# Altium schematic symbol library Shared.SchLib: 97 symbols
Pins are listed as number, name and electrical type; pins without a type are passive.

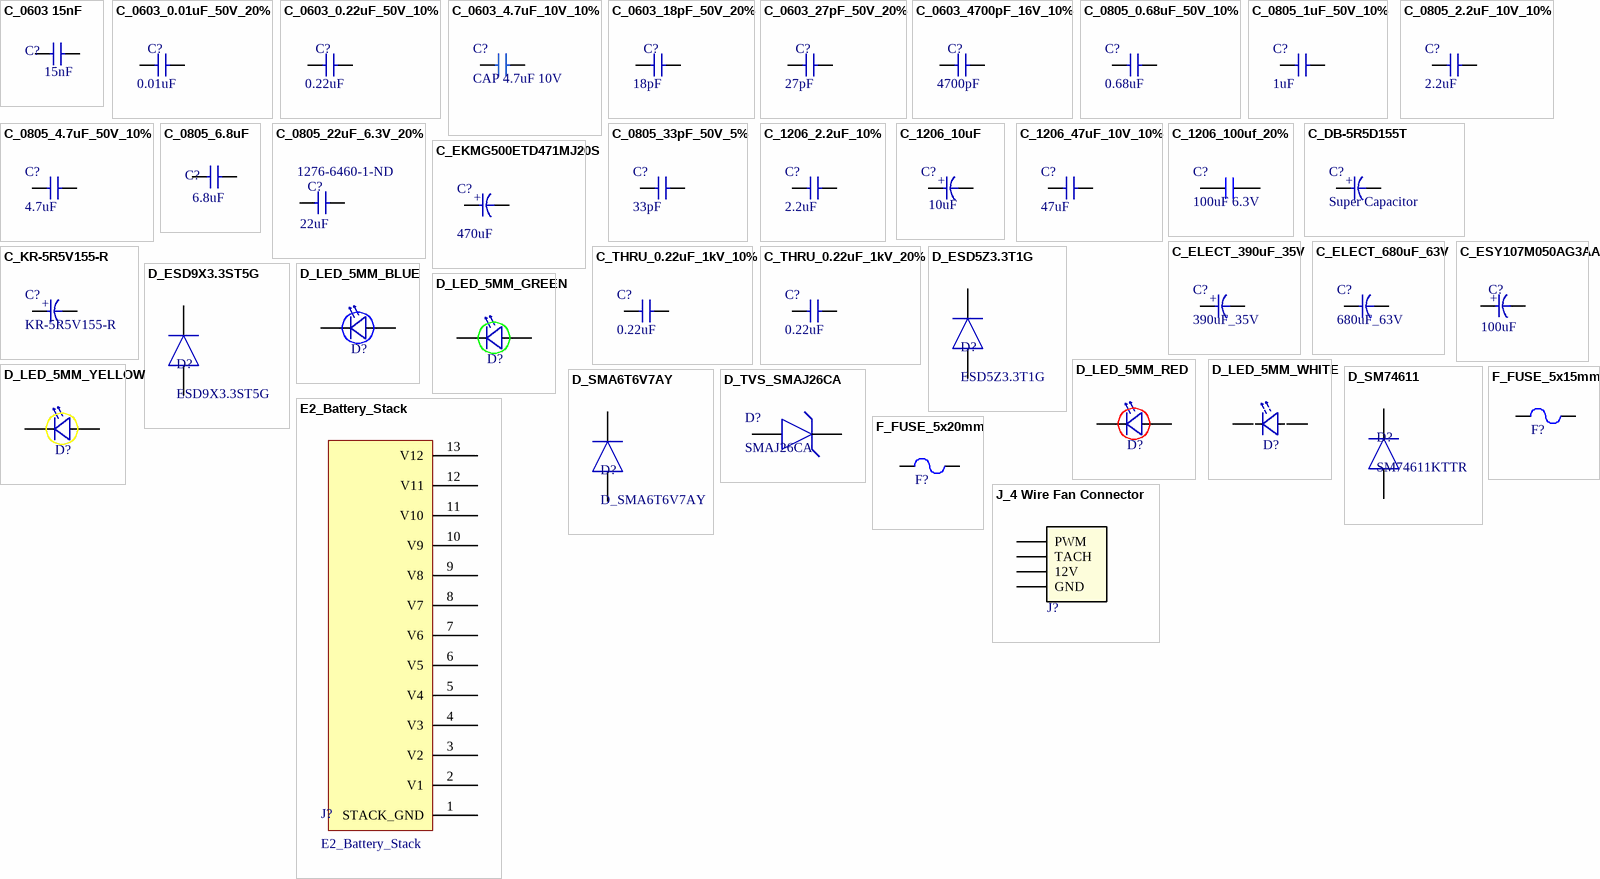
[diagram p0: symbols C_0603 15nF to J_4 Wire Fan Connector]

## C_0603 15nF
designator C?  value 15nF  (hidden comment: *)
CAP CERM 15nF; SVP Creator: Joshua San Min; Package: =Selected Package
pins: 1, 2

## C_0603_0.01uF_50V_20%
designator C?, comment value 0.01uF  (hidden comment: CAP 0.01uF 50V X7R)
CAP CERM 0.01uF 20% 50V 0603; SVP Creator: Spencer Berglund; Package: =SelectedPackage; Voltage: 50V; Temperature Coefficient: X7R; Supplier 1: Digi-Key; Supplier Part Number 1: 1276-1927-1-ND
simulation model Capacitor (Capacitor Model)
footprint 0603_CAPACITOR (0603 Capacitor)
pins: 1, 2

## C_0603_0.22uF_50V_10%
designator C?, comment value 0.22uF  (hidden comment: CAP 0.22uF 50V X7R)
CAP CERM 0.22uF 10% 50V 0603; SVP Creator: Spencer Berglund; Package: =SelectedPackage; Voltage: 50V; Temperature Coefficient: X7R; Supplier 1: Digi-Key; Supplier Part Number 1: 399-7889-1-ND
simulation model Capacitor (Capacitor Model)
footprint 0603_CAPACITOR (0603 Capacitor)
pins: 1, 2

## C_0603_4.7uF_10V_10%
designator C?, comment CAP 4.7uF 10V
SVP Creator: Austin Glynn; Supplier 1: "Digikey"; Value: 4.7uF; Supplier 1 Part Number: "445-14258-1-ND"; Voltage: 10V
simulation model CAPACITOR (Model Description)
footprint Model Name (Footprint not found)
pins: 4, 5

## C_0603_18pF_50V_20%
designator C?, comment value 18pF  (hidden comment: CAP 18pF 50V NP0)
CAP CERM 18pF 20% 50V 0603; SVP Creator: Spencer Berglund; Package: =SelectedPackage; Voltage: 50V; Temperature Coefficient: NP0; Supplier 1: Digi-Key; Supplier Part Number 1: 399-7866-1-ND
simulation model Capacitor (Capacitor Model)
footprint 0603_CAPACITOR (0603 Capacitor)
pins: 1, 2

## C_0603_27pF_50V_20%
designator C?, comment value 27pF  (hidden comment: CAP 27pF 50V NP0)
CAP CERM 27pF 20% 50V 0603; SVP Creator: Spencer Berglund; Package: =SelectedPackage; Voltage: 50V; Temperature Coefficient: NP0; Supplier 1: Digi-Key; Supplier Part Number 1: 399-7889-1-ND
simulation model Capacitor (Capacitor Model)
footprint 0603_CAPACITOR (0603 Capacitor)
pins: 1, 2

## C_0603_4700pF_16V_10%
designator C?, comment value 4700pF  (hidden comment: CAP 4700pF 16V X7R)
CAP CERM 4700pF 10% 16V 0603; SVP Creator: Spencer Berglund; Package: =SelectedPackage; Voltage: 16V; Temperature Coefficient: X7R; Supplier 1: Digi-Key; Supplier Part Number 1: 399-9091-1-ND
simulation model Capacitor (Capacitor Model)
footprint 0603_CAPACITOR (0603 Capacitor)
pins: 1, 2

## C_0805_0.68uF_50V_10%
designator C?, comment value 0.68uF  (hidden comment: C0805C684K5RACTU)
0.68µF 50V Ceramic Capacitor X7R 0805 (2012 Metric) 0.079" L x 0.049" W (2.00mm x 1.25mm); SVP Creator: Spencer Berglund; Voltage - Rated: 50V; Supplier 1: Digi-Key; Supplier Part Number 1: 399-8114-1-ND
footprint 0805_Capacitor (0805 Capacitor)
pins: 1, 2

## C_0805_1uF_50V_10%
designator C?, comment value 1uF  (hidden comment: CL21B105KBFNNNG)
1µF 50V Ceramic Capacitor X7R 0805 (2012 Metric) 0.079" L x 0.049" W (2.00mm x 1.25mm); SVP Creator: Spencer Berglund; Voltage - Rated: 50V; Supplier 1: Digi-Key; Supplier Part Number 1: 1276-6470-1-ND
footprint 0805_Capacitor (0805 Capacitor)
pins: 1, 2

## C_0805_2.2uF_10V_10%
designator C?, comment value 2.2uF  (hidden comment: CAP)
2.2µF ±10% 10V X7R Ceramic Capacitor -55°C ~ 125°C Surface Mount, MLCC 0805 (2012 Metric) 0.079" L x 0.049" W (2.00mm x 1.25mm); SVP Creator: Zach Kabitz; Supplier 1: Digi-Key; Supplier Part Number 1: 311-1368-2-ND
footprint 0805_Capacitor (0805 Capacitor)
pins: 1, 2

## C_0805_4.7uF_50V_10%
designator C?  value 4.7uF  (hidden comment: *)
CAP CERM X5R 4.7uF; Supplier 1: Digi-Key; Supplier Part Number 1: 490-10751-2-ND
footprint 0805_Capacitor (0805 Capacitor)
pins: 1, 2

## C_0805_6.8uF
designator C?, comment value 6.8uF  (hidden comment: CAP 6.8uF)
SVP Creator: Joshua San; Package: =SelectedPackage
footprint 0805_Capacitor (0805 Capacitor)
pins: 1, 2

## C_0805_22uF_6.3V_20%
designator C?, comment value 22uF  Supplier Part Number 1: 1276-6460-1-ND  (hidden comment: CL21A226MQQNNNG)
22µF 6.3V Ceramic Capacitor X5R 0805 (2012 Metric) 0.079" L x 0.049" W (2.00mm x 1.25mm); Tolerance: ±20%; Voltage - Rated: 6.3V; Temperature Coefficient: X5R; Operating Temperature: -55°C ~ 85°C; Supplier 1: Digi-Key
footprint 0805_CAPACITOR (0805 Capacitor)
pins: 1, 2

## C_0805_33pF_50V_5%
designator C?, comment value 33pF  (hidden comment: CAP)
33pF ±5% 50V C0G, NP0 Ceramic Capacitor -55°C ~ 125°C Surface Mount, MLCC 0805 (2012 Metric) 0.079" L x 0.049" W (2.00mm x 1.25mm); SVP Creator: Zach Kabitz; Supplier 1: Digi-Key; Supplier Part Number 1: 1276-1105-2-ND
footprint 0805_Capacitor (0805 Capacitor)
pins: 1, 2

## C_1206_2.2uF_10%
designator C?, comment value 2.2uF  (hidden comment: CAP)
2.2µF ±10% 100V X7R Ceramic Capacitor -55°C ~ 125°C Surface Mount, MLCC 1206 (3216 Metric) 0.126" L x 0.063" W (3.20mm x 1.60mm); SVP Creator: Zach Kabitz; Supplier 1: Digi-Key; Supplier Part Number 1: GRM31CR72A225KA73K-ND
footprint 1206_CAPACITOR (1206 Resistor/Capacitor)
pins: 1, 2

## C_1206_10uF
designator C?  Capacitance: 10uF  (hidden comment: *)
CAP TANT 10UF 6.3V 10% 1206; Manufacturer: Kemet; Manufacturer Part Number: T491A106K006AT7280; Digikey Part Number: 399-10116-2-ND; Family: Tantalum Capacitor; Voltage rating: 6.3V; Package: 1206
footprint 1206_CAPACITOR (1206 Resistor/Capacitor)
pins: 1, 2
text: +

## C_1206_47uF_10V_10%
designator C?  value 47uF  (hidden comment: *)
CAP CERM X5R 47uF
footprint 1206_CAPACITOR (1206 Resistor/Capacitor)
pins: 1, 2

## C_1206_100uf_20%
designator C?, comment 100uF 6.3V
Cap 100uF 6.3V 20% X5R 1206 CER; Manufacturer 1: Murata Electronics North America; Manufacturer Part Number 1: GRM31CR60J107ME39L; Capacitance: 100µF; Supplier 1: Digi-Key; Supplier Part Number 1: 490-4539-1-ND; RoHS: RoHS Compliant; Category: Capacitors; Stock: 5629; Pricing: 1=0.81, 10=0.689, 50=0.507, 100=0.403, 250=0.338, 500=0.3055, 1000=0.2795 (USD); Packaging: Cut Tape (CT); Voltage - Rated: 6.3V; Tolerance: ±20%; Temperature Coefficient: X5R; Mounting Type: Surface Mount, MLCC; Operating Temperature: -55°C ~ 85°C; Applications: General Purpose; Ratings: -; Package / Case: 1206 (3216 Metric); Size / Dimension: 0.126" L x 0.063" W (3.20mm x 1.60mm); Height - Seated (Max): -; Thickness (Max): 0.071" (1.80mm); Lead Spacing: -; Features: -; Lead Style: -; ComponentLink1URL: http://www.murata.com/products/catalog/pdf/c02e.pdf; ComponentLink1Description: http://www.murata.com/products/catalog/pdf/c02e.pdf
footprint 1206_CAPACITOR (1206 Resistor/Capacitor)
footprint 1206_CAPACITOR (1206 Resistor/Capacitor)
pins: 1, 2

## C_DB-5R5D155T
designator C?, comment Super Capacitor
CAP 1.5F -20% +80% 5.5V T/H; Supplier 1: Digi-Key; Supplier Part Number 1: 604-1151-ND
footprint CAP_RADIAL_5x21.5_THRU (Radial Capacitor 5mm lead spacing, 21.5mm diameter, 8mm tall)
pins: 1, 2
text: +

## C_EKMG500ETD471MJ20S
designator C?, comment value 470uF  (hidden comment: EKMG500ETD471MJ20S)
470µF 50V Aluminum Capacitors Radial, Can 1000 Hrs @ 105°C; Supplier 1: Digi-Key; Supplier Part Number 1: 565-3745-1-ND
footprint CAP_RADIAL_10x21.5mm_THRU (Aluminum Capacitor Radial)
pins: 1, 2
text: +

## C_ELECT_390uF_35V
designator C?, comment 390uF_35V
CAP ALUM 390UF 35V 20% SMD; Manufacturer: Nichicon; Manufacturer Part Number: UCL1V391MNL1GS; Capacitance: 390µF; Lifetime @ Temp.: 2000 Hrs @ 105°C; Ripple Current: 850mA; Impedance: 80 mOhm; Surface Mount Land Size: 0.406" L x 0.406" W (10.30mm x 10.30mm); Supplier 1: Digi-Key; RoHS: RoHS Compliant; Category: Capacitors; Stock 1: 2000; Pricing 1: 500=0.34272, 1000=0.29512, 2500=0.27608, 5000=0.2618, 12500=0.24809, 25000=0.24276, 50000=0.23952 (USD); Packaging: Tape & Reel (TR); Voltage Rating: 35V; Tolerance: ±20%; ESR (Equivalent Series Resistance): -; Operating Temperature: -55°C ~ 105°C; Type: -; Applications: General Purpose; Lead Spacing: -; Size / Dimension: 0.394" Dia (10.00mm); Height - Seated (Max): 0.394" (10.00mm); Mounting Type: Surface Mount; Package / Case: Radial, Can - SMD; ComponentLink1URL: http://nichicon-us.com/english/products/pdfs/e-cl.pdf; ComponentLink1Description: http://nichicon-us.com/english/products/pdfs/e-cl.pdf; Supplier Part Number 1: 493-3960-2-ND
footprint CAP_10x10_SMD
pins: 1, 2
text: +

## C_ELECT_680uF_63V
designator C?, comment 680uF_63V
CAP ALUM 680UF 63V 20% SMD; Manufacturer: Nichicon; Manufacturer Part Number: UCL1V391MNL1GS; Capacitance: 680µF; Lifetime @ Temp.: 2000 Hrs @ 105°C; Ripple Current: 850mA; Impedance: 80 mOhm; Surface Mount Land Size: 0.406" L x 0.406" W (10.30mm x 10.30mm); Supplier 1: Digi-Key; RoHS: RoHS Compliant; Category: Capacitors; Stock 1: 2000; Pricing 1: 500=0.34272, 1000=0.29512, 2500=0.27608, 5000=0.2618, 12500=0.24809, 25000=0.24276, 50000=0.23952 (USD); Packaging: Tape & Reel (TR); Voltage Rating: 63V; Tolerance: ±20%; ESR (Equivalent Series Resistance): -; Operating Temperature: -55°C ~ 105°C; Type: -; Applications: General Purpose; Lead Spacing: -; Size / Dimension: 0.394" Dia (10.00mm); Height - Seated (Max): 0.394" (10.00mm); Mounting Type: Surface Mount; Package / Case: Radial, Can - SMD; ComponentLink1URL: http://nichicon-us.com/english/products/pdfs/e-cl.pdf; ComponentLink1Description: http://nichicon-us.com/english/products/pdfs/e-cl.pdf; Supplier Part Number 1: 493-3960-2-ND
footprint CAP_10x10_SMD
pins: 1, 2

## C_ESY107M050AG3AA
designator C?, comment value 100uF  (hidden comment: ESY107M050AG3AA)
100µF 50V Aluminum Capacitors Radial, Can 74 mOhm @ 100kHz 3000 Hrs @ 105°C; Supplier 1: Digi-Key; Supplier Part Number 1: 399-6119-ND
footprint CAP_RADIAL_3.5x12.50mm_THRU
pins: 1, 2
text: +

## C_KR-5R5V155-R
designator C?, comment KR-5R5V155-R
1.5F Supercap 5.5V Axial, Can - Vertical 30 Ohm @ 1kHz 1000 Hrs @ 70°C 0.748" Dia (19.00mm); Tolerance: -20%, +80%; Supplier 1: Digi-Key; Supplier Part Number 1: 283-2817-ND; Value: 1.5F; Voltage - Rated: 5.5V; ESR: 30 Ohm @ 1kHz; Operating Temperature: -25°C ~ 70°C
footprint CAP_AXIAL_5x20mm_THRU (Axial, Can - Vertical)
pins: 1, 2
text: +

## C_THRU_0.22uF_1kV_10%
designator C?, comment value 0.22uF  (hidden comment: C_BIG)
CAP FILM 0.22UF 10% 1KVDC RADIAL; SVP Creator: Zach Kabitz; Supplier 1: Digi-Key; Supplier Part Number 1: 399-12808-ND
pins: 1, 2

## C_THRU_0.22uF_1kV_20%
designator C?, comment value 0.22uF  (hidden comment: C_BIG)
CAP CER 0.22UF 1KV X7R RADIAL; SVP Creator: Zach Kabitz; Supplier 1: Digi-Key; Supplier Part Number 1: 490-9279-3-ND
pins: 1, 2

## D_ESD5Z3.3T1G
designator D?, comment ESD5Z3.3T1G
TVS DIODE 3.3VWM 14.1VC SOD523; Supplier 1: Digi-Key; Supplier Part Number 1: ESD5Z3.3T1GOSCT-ND
footprint SOD-523 (SOD-523 Diode)
pins: 1, 2

## D_ESD9X3.3ST5G
designator D?, comment ESD9X3.3ST5G
TVS DIODE 3.3VWM 10.4VC SOD923; Supplier 1: Digi-Key; Supplier Part Number 1: ESD9X3.3ST5GOSCT-ND
footprint SOD-923 (SOD-923 Diode)
pins: 1, 2

## D_LED_5MM_BLUE
designator D?  (value not drawn)
LED 5MM BLUE CLEAR 470NM 15DEG; Manufacturer: Cree Inc; Manufacturer PN: C503B-BCN-CV0Z0461; SVP Creator: Matt Crane; Current: 20mA; Forward Voltage: 3.2; Package: Radial; Known Distributors: Digikey; Value: BLUE; ComponentLink1Description: Datasheet
footprint 5mm_LED_Blue
pins: 1 Cathode, 2 Anode

## D_LED_5MM_GREEN
designator D?  (value not drawn)
LED 5MM GREEN CLEAR 527NM 15DEG; Manufacturer: Cree Inc; Manufacturer PN: C503B-GAN-CB0F0791; SVP Creator: Matt Crane; Current: 20mA; Forward Voltage: 3.2; Package: Radial; Known Distributors: Digikey; Value: GREEN; ComponentLink1Description: Datasheet
footprint 5mm_LED_GREEN
pins: 1 Cathode, 2 Anode

## D_LED_5MM_RED
designator D?  (value not drawn)
LED 5MM RED CLEAR 624NM 15DEG; Manufacturer: Cree Inc; Manufacturer PN: C503B-RAS-CY0B0AA1; SVP Creator: Matt Crane; Current: 20mA; Forward Voltage: 2.1; Package: Radial; Known Distributors: Digikey; Value: RED; ComponentLink1Description: Datasheet
footprint 5mm_LED_RED
pins: 1 Cathode, 2 Anode

## D_LED_5MM_WHITE
designator D?  (value not drawn)
LED COOL WHITE CLEAR 5MM RND T/H; Manufacturer: Cree Inc; Manufacturer PN: C513A-WSN-CX0Z0231; SVP Creator: Jun Oh; Current: 20mA; Forward Voltage: 3.2V; Package: Radial; Known Distributors: Digikey; Value: WHITE; ComponentLink1Description: Datasheet; Supplier 1: Digi-Key; Supplier Part Number 1: C513A-WSN-CX0Z0231-ND
footprint 5mm_LED_GREEN
pins: 1 Cathode, 2 Anode

## D_LED_5MM_YELLOW
designator D?  (value not drawn)
LED 5MM AMBER CLEAR 591NM 15DEG; Manufacturer: Cree Inc; Manufacturer PN: C503B-AAN-CY0B0251; SVP Creator: Matt Crane; Current: 20mA; Forward Voltage: 2.1; Value: YELLOW; Package: Radial; Known Distributors: Digikey; ComponentLink1Description: Datasheet
footprint 5mm_LED_YELLOW
pins: 1 Cathode, 2 Anode

## D_SM74611
designator D?, comment SM74611KTTR
Smart Bypass Diode (For Solar Array) DDPAK/TO-263-3; Forward Voltage (Average): 26mV; Forward Current (Average): 15A Max; Reverse Voltage: 30V; Supplier 1: Digi-Key; Supplier Part Number 1: 296-35688-1-ND
footprint SM74611KTTR (SM74611KTTR Smart Bypass Diode)
pins: A ANNODE, C CATHODE

## D_SMA6T6V7AY
designator D?
TVS DIODE 5VWM 13.4VC SMA; Supplier 1: Digi-Key; Supplier Part Number 1: 497-11833-1-ND
footprint SMA_DIODE (DO-214AC SMA Dode Footprint)
pins: 1, 2

## D_TVS_SMAJ26CA
designator D?, comment SMAJ26CA
TVS DIODE BIDIRECTIONAL 26VWM 53.5VC SMA
footprint SMA_DIODE_BI
pins: 1 A, 2 K

## E2_Battery_Stack
designator J?
Mechanical model of Eos 2's battery stack configuration (12 cells)
footprint E2_Battery_Stack (Footprint not found)
pins: 1 STACK_GND, 2 V1, 3 V2, 4 V3, 5 V4, 6 V5, 7 V6, 8 V7, 9 V8, 10 V9, 11 V10, 12 V11, 13 V12

## F_FUSE_5x15mm
designator F?  (value not drawn)
5mm diameter, 15mm long fuses; Supplier 1: Digi-Key; Supplier Part Number 1: 507-1703-ND
footprint FUSE_CARTRIDGE_5x15mm
pins: 1, 2

## F_FUSE_5x20mm
designator F?  (value not drawn)
5mm diameter, 20mm long fuses; Supplier 1: Digi-Key; Supplier Part Number 1: 507-1703-ND
footprint FUSE_CARTRIDGE_5x20mm
pins: 1, 2

## J_4 Wire Fan Connector
designator J?  (value not drawn)
4 Wire Fan Connector; Supplier 1: Digi-Key; Supplier Part Number 1: WM4330-ND
footprint 4 Wire Fan Header (4 Pin Fan Header)
pins: 1 GND, 2 12V, 3 TACH, 4 PWM

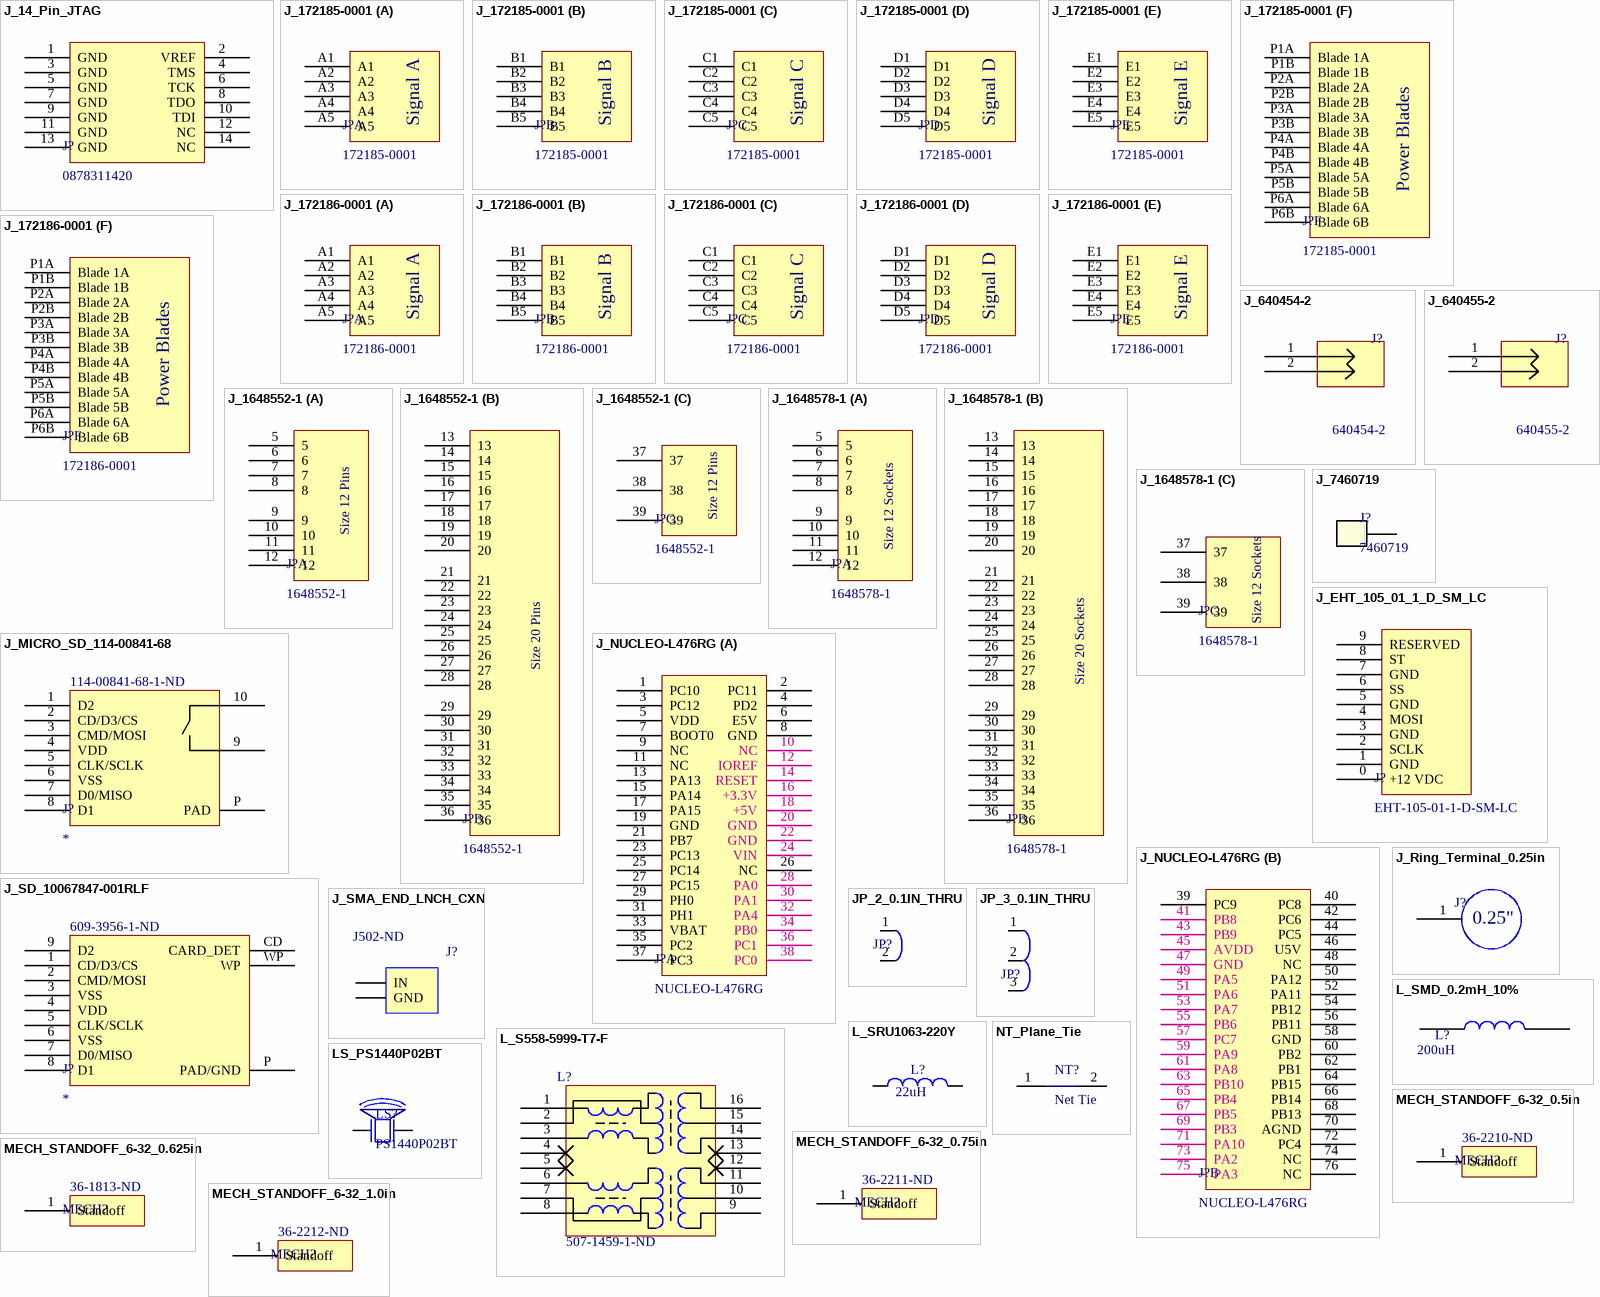
[diagram p1: symbols J_14_Pin_JTAG to NT_Plane_Tie]

## J_14_Pin_JTAG
designator J?, comment 0878311420
14 Pin JTAG Connector; Supplier 1: Digi-Key; Supplier Part Number 1: WM17469-ND
footprint 0878311420 (14 Positions Header, Shrouded Connector 0.079" (2.00mm) Through Hole Gold)
pins: 1 GND, 2 VREF, 3 GND, 4 TMS, 5 GND, 6 TCK, 7 GND, 8 TDO, 9 GND, 10 TDI, 11 GND, 12 NC, 13 GND, 14 NC

## J_172185-0001
designator J?, comment 172185-0001
EXTreme EnergetiC™ Modular Right-Angle Plug Assembly, 31 Circuits (25 Signal/6 Power) with Solder Tail Mounting
footprint 172185-0001 (EXTreme EnergetiC™ Modular Right-Angle Plug Assembly, 31 Circuits (25 Signal/6 Power) with Solder Tail Mounting)
part A pins: A1, A2, A3, A4, A5
part B pins: B1, B2, B3, B4, B5
part C pins: C1, C2, C3, C4, C5
part D pins: D1, D2, D3, D4, D5
part E pins: E1, E2, E3, E4, E5
part F pins: P1A Blade 1A, P1B Blade 1B, P2A Blade 2A, P2B Blade 2B, P3A Blade 3A, P3B Blade 3B, P4A Blade 4A, P4B Blade 4B, P5A Blade 5A, P5B Blade 5B, P6A Blade 6A, P6B Blade 6B
part A text: Signal A
part B text: Signal B
part C text: Signal C
part D text: Signal D
part E text: Signal E
part F text: Power Blades

## J_172186-0001
designator J?, comment 172186-0001
EXTreme EnergetiC™ Modular Vertical Receptacle Assembly, 31 Circuits (25 Signal/6 Power) with Press-Fit Tails
footprint 172186-0001 (EXTreme EnergetiC™ Modular Vertical Receptacle Assembly, 31 Circuits (25 Signal/6 Power) with Press-Fit Tails)
part A pins: A1, A2, A3, A4, A5
part B pins: B1, B2, B3, B4, B5
part C pins: C1, C2, C3, C4, C5
part D pins: D1, D2, D3, D4, D5
part E pins: E1, E2, E3, E4, E5
part F pins: P1A Blade 1A, P1B Blade 1B, P2A Blade 2A, P2B Blade 2B, P3A Blade 3A, P3B Blade 3B, P4A Blade 4A, P4B Blade 4B, P5A Blade 5A, P5B Blade 5B, P6A Blade 6A, P6B Blade 6B
part A text: Signal A
part B text: Signal B
part C text: Signal C
part D text: Signal D
part E text: Signal E
part F text: Power Blades

## J_640454-2
designator J?, comment 640454-2
2 Positions Header, Unshrouded Connector 0.100" (2.54mm) Through Hole Tin; Supplier 1: Digi-Key; Supplier Part Number 1: A19423-ND
footprint 640454-2
pins: 1, 2

## J_640455-2
designator J?, comment 640455-2
2 Positions Header, Unshrouded Connector 0.100" (2.54mm) Through Hole, Right Angle Tin; Supplier 1: Digi-Key; Supplier Part Number 1: A19450-ND
footprint 640455-2
pins: 1, 2

## J_1648552-1
designator J?, comment 1648552-1
39 Position Housing for 39 (24 + 15 Power) Position Housing for Male Pins Connector Black Panel Mount Drawer; Supplier 1: Digi-Key; Supplier 2: Digi-Key; Supplier 3: Digi-Key; Supplier Part Number 1: A36286-ND; Supplier Part Number 2: 1650060-2-ND; Supplier Part Number 3: A112729-ND; Supplier 4: Digi-Key; Supplier Part Number 4: A101939-ND
footprint 1648552-1 (39 (24 + 15 Power) Position Housing for Male Pins Connector Black Panel Mount Drawer)
part A pins: 5, 6, 7, 8, 9, 10, 11, 12
part B pins: 13, 14, 15, 16, 17, 18, 19, 20, 21, 22, 23, 24, 25, 26, 27, 28, 29, 30, 31, 32, 33, 34, 35, 36
part C pins: 37, 38, 39
part A text: Size 12 Pins
part B text: Size 20 Pins
part C text: Size 12 Pins

## J_1648578-1
designator J?, comment 1648578-1
39 Position Housing for Female Sockets Connector Black Panel Mount Drawer; Supplier 1: Digi-Key; Supplier Part Number 1: 1648578-1-ND; Supplier 2: Digi-Key; Supplier 3: Digi-Key; Supplier 4: Digi-Key; Supplier Part Number 2: A114336-ND; Supplier Part Number 3: A36293-ND; Supplier Part Number 4: A36288-ND
footprint 1648578-1 (39 Position Housing for Female Sockets Connector Black Panel Mount Drawer)
part A pins: 5, 6, 7, 8, 9, 10, 11, 12
part B pins: 13, 14, 15, 16, 17, 18, 19, 20, 21, 22, 23, 24, 25, 26, 27, 28, 29, 30, 31, 32, 33, 34, 35, 36
part C pins: 37, 38, 39
part A text: Size 12 Sockets
part B text: Size 20 Sockets
part C text: Size 12 Sockets

## J_7460719
designator J?, comment 7460719
POWER ELEMENT SHANK M8 25PIN; Manufacturer: Wurth Electronics Inc; Supplier 1: Digi-Key; Manufacturer Part Number: 7460719; RoHS: RoHS Compliant; Category: Connectors, Interconnects; Stock 1: 401; Pricing 1: 1=5.59, 10=5.346, 50=4.86, 100=4.374, 500=3.888 (USD); Terminal Type: Shank Terminal; Screw Size: M8; Termination: Press-Fit, Solder; Current Rating: -; Number of Pins: 25; Mounting Type: Through Hole; Features: Screw not Included; Contact Finish: -; Contact Material: -; Material - Insulation: -; Screw Material: -; Screw Finish: -; ComponentLink1URL: http://katalog.we-online.de/em/datasheet/7460719.pdf; ComponentLink1Description: http://katalog.we-online.de/em/datasheet/7460719.pdf; Supplier Part Number 1: 732-3219-ND
footprint Screw Connector 7460719
pins: 1

## J_EHT_105_01_1_D_SM_LC
designator J?, comment EHT-105-01-1-D-SM-LC
Samtec Connector for LuminQ/BeniQ Heads Up Deisplay (+12V); Manufacturer: Samtec; Manufacturer PN: EHT-105-01-1-D-SM-LC
footprint EHT-120-01-S-D-SM-LC
pins: 0 +12 VDC (power), 1 GND (power), 2 SCLK, 3 GND, 4 MOSI, 5 GND (power), 6 SS, 7 GND, 8 ST, 9 RESERVED, 10 NC hidden, 11 NC hidden

## J_MICRO_SD_114-00841-68
designator J?  Supplier Part Number 1: 114-00841-68-1-ND
CONN MICRO SD CARD PUSH-PULL R/A; Supplier 1: Digi-Key
footprint MICRO_SD_SMD_114-00841-68 (CONN MICRO SD CARD PUSH-PUSH R/A)
pins: 1 D2, 2 CD/D3/CS, 3 CMD/MOSI, 4 VDD, 5 CLK/SCLK, 6 VSS, 7 D0/MISO, 8 D1, 9, 10, P PAD

## J_NUCLEO-L476RG
designator J?, comment NUCLEO-L476RG
STM32L476RG, mbed-Enabled Development Nucleo STM32L4 MCU 32-Bit ARM® Cortex®-M4 Embedded Evaluation Board; Supplier 1: Digi-Key; Supplier Part Number 1: 497-15881-ND; Supplier 2: Digi-Key; Supplier Part Number 2: S7122-ND
footprint NUCLEO-L476RG (STM32L4RG Nucleo Shield)
part A pins: 1 PC10, 2 PC11, 3 PC12, 4 PD2, 5 VDD, 6 E5V, 7 BOOT0, 8 GND, 9 NC, 10 NC, 11 NC, 12 IOREF, 13 PA13, 14 RESET, 15 PA14, 16 +3.3V, 17 PA15, 18 +5V, 19 GND, 20 GND, 21 PB7, 22 GND, 23 PC13, 24 VIN, 25 PC14, 26 NC, 27 PC15, 28 PA0, 29 PH0, 30 PA1, 31 PH1, 32 PA4, 33 VBAT, 34 PB0, 35 PC2, 36 PC1, 37 PC3, 38 PC0
part B pins: 39 PC9, 40 PC8, 41 PB8, 42 PC6, 43 PB9, 44 PC5, 45 AVDD, 46 U5V, 47 GND, 48 NC, 49 PA5, 50 PA12, 51 PA6, 52 PA11, 53 PA7, 54 PB12, 55 PB6, 56 PB11, 57 PC7, 58 GND, 59 PA9, 60 PB2, 61 PA8, 62 PB1, 63 PB10, 64 PB15, 65 PB4, 66 PB14, 67 PB5, 68 PB13, 69 PB3, 70 AGND, 71 PA10, 72 PC4, 73 PA2, 74 NC, 75 PA3, 76 NC

## J_Ring_Terminal_0.25in
designator J?, comment Ring Terminal  (value not drawn)
0.25" Ring Terminal
footprint Ring_Terminal_0.25in
pins: 1
text: 0.25"

## J_SD_10067847-001RLF
designator J?  Supplier Part Number 1: 609-3956-1-ND
CONN SD CARD PUSH-PUSH R/A; Supplier 1: Digi-Key
footprint SD_SMD_10067847 (CONN SD CARD PUSH-PUSH SMD)
pins: 1 CD/D3/CS, 2 CMD/MOSI, 3 VSS, 4 VDD, 5 CLK/SCLK, 6 VSS, 7 D0/MISO, 8 D1, 9 D2, CD CARD_DET "Card Detect", P PAD/GND, WP "Write Protect"

## J_SMA_END_LNCH_CXN
designator J?, comment Supplier Part Number 1: J502-ND  (hidden comment: Short Part Description)
CONN JACK END LAUNCH PCB .187" G; Manufacturer: Emerson Network Power Connectivity Solutions; Manufacturer PN: 142-0701-801; Supplier 1: Digi-Key
footprint SMA_END_LNCH_0.062" (End Launch SMA CXN for 0.062" boards)
pins: 1 IN, 2 GND

## JP_2_0.1IN_THRU
designator JP?  (value not drawn)
Thru-Hole Jumper (2 Pin)
footprint Jumper_2_Thru
pins: 1, 2

## JP_3_0.1IN_THRU
designator JP?  (value not drawn)
Thru-Hole Jumper (3 Pin)
footprint Jumper_3_Thru
pins: 1, 2, 3

## L_S558-5999-T7-F
designator L?, comment Supplier Part Number 1: 507-1459-1-ND  (hidden comment: S558-5999-T7-F)
S558-5999-T7-F Pulse Transformer; Supplier 1: Digi-Key
footprint QBS001 (SOP16)
pins: 1, 2, 3, 4 NC, 5 NC, 6, 7, 8, 9, 10, 11, 12 NC, 13 NC, 14, 15, 16

## L_SMD_0.2mH_10%
designator L?, comment value 200uH  (hidden comment: INDUCTOR)
FIXED IND 200UH 1A 650 MOHM SMD; SVP Creator: Zach Kabitz; Supplier 1: Digi-Key; Supplier Part Number 1: SDR1105-201KLTR-ND
pins: 1, 2

## L_SRU1063-220Y
designator L?, comment value 22uH  (hidden comment: SRU1063-220Y)
FIXED IND 22UH 3A 60 MOHM SMD; Supplier 1: Digi-Key; Supplier Part Number 1: SRU1063-220YCT-ND
footprint L_SRU1063 (FIXED IND 22UH 3A 60 MOHM SMD)
pins: 1, 2

## LS_PS1440P02BT
designator LS?, comment PS1440P02BT
Zero-Peak Signal Buzzer Single Tone 4kHz Piezo 30V (Max) 75dB @ 3V, 10cm; Voltage - Rated: 3V; Voltage Range: 30V (Max); Frequency: 4kHz; Sound Pressure Level: 75dB @ 3V, 10cm; Operating Temperature: -10°C ~ 70°C; Supplier 1: Digi-Key; Supplier Part Number 1: 445-5242-1-ND
footprint PIEZO_BUZZER_PS_THRU (Thru Hole Piezo Buzzer 14mm diameter, 5mm pitch)
pins: 1, 2

## MECH_STANDOFF_6-32_0.5in
designator MECH?, comment Supplier Part Number 1: 36-2210-ND  (hidden comment: 2210)
Hex Standoff Threaded #6-32 Aluminum 0.500" (12.70mm) 1/2"; Supplier 1: Digi-Key
footprint STANDOFF_6-32_0.5in (Standoff for 6-32 screw, 0.5 inches tall)
pins: 1 Standoff

## MECH_STANDOFF_6-32_0.75in
designator MECH?, comment Supplier Part Number 1: 36-2211-ND  (hidden comment: 2211)
Hex Standoff Threaded #6-32 Aluminum 0.750" (19.05mm) 3/4"; Supplier 1: Digi-Key
footprint STANDOFF_6-32_0.75in (Standoff for 6-32 screw, 0.75 inches tall)
pins: 1 Standoff

## MECH_STANDOFF_6-32_0.625in
designator MECH?, comment Supplier Part Number 1: 36-1813-ND  (hidden comment: 1813)
Hex Standoff Threaded #6-32 Aluminum 0.625" (15.88mm) 5/8"; Supplier 1: Digi-Key
footprint STANDOFF_6-32_0.625in (Standoff for 6-32 screw, 0.625 inches tall)
pins: 1 Standoff

## MECH_STANDOFF_6-32_1.0in
designator MECH?, comment Supplier Part Number 1: 36-2212-ND  (hidden comment: 2212)
Hex Standoff Threaded #6-32 Aluminum 1.000" (25.40mm) 1"; Supplier 1: Digi-Key
footprint STANDOFF_6-32_1.0in (Standoff for 6-32 screw, 1.0 inches tall)
pins: 1 Standoff

## NT_Plane_Tie
designator NT?, comment Net Tie  (net tie, no BOM)
Ties two ground planes together
footprint PLANE_TIE
pins: 1, 2

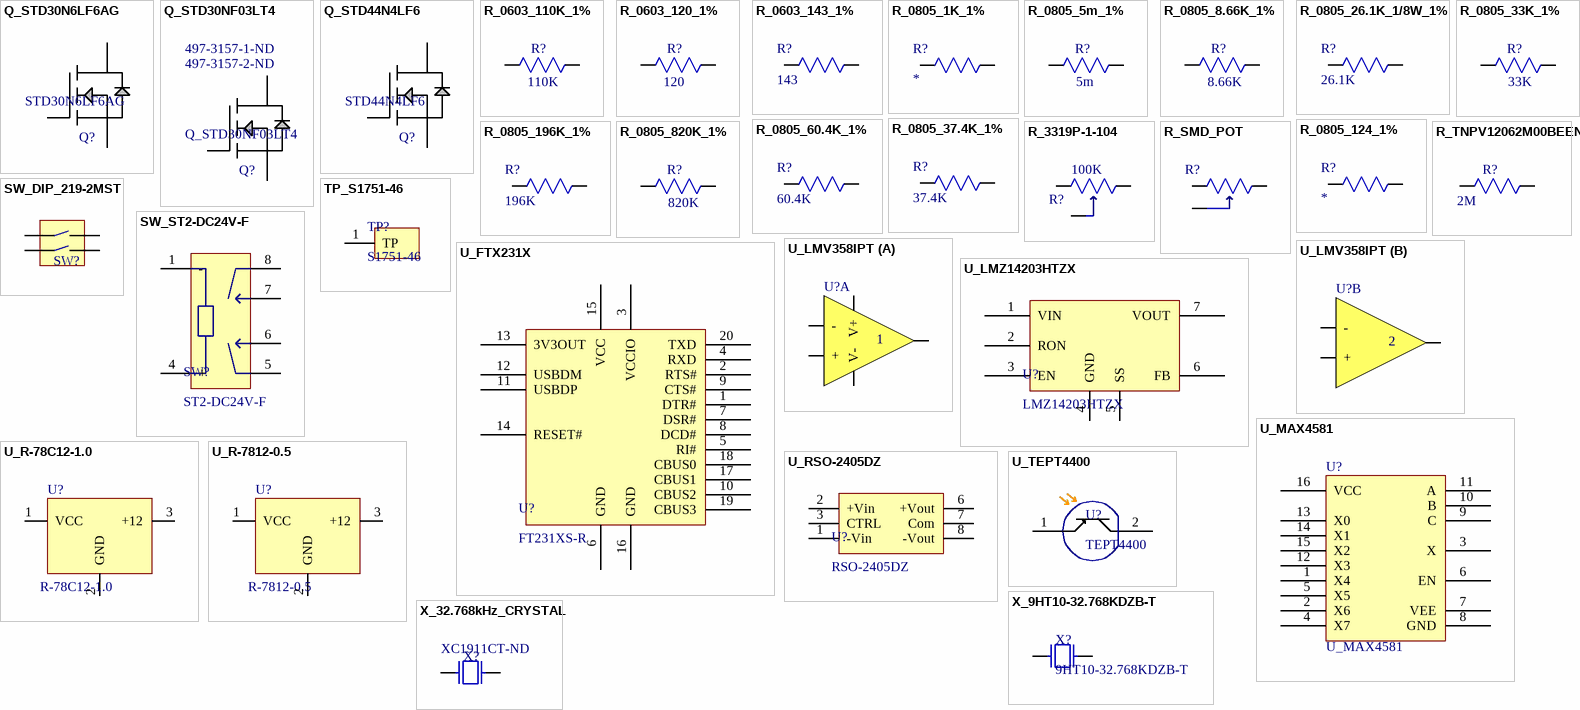
[diagram p2: symbols Q_STD30N6LF6AG to X_32.768kHz_CRYSTAL]

## Q_STD30N6LF6AG
designator Q?, comment STD30N6LF6AG
MOSFET N-CH 60V 24A DPAK; Manufacturer: STMicroelectronics; FET Type: MOSFET N-Channel, Metal Oxide; FET Feature: Logic Level Gate; Drain to Source Voltage (Vdss): 30V; Current - Continuous Drain (Id) @ 25°C: 30A (Tc); Rds On (Max) @ Id, Vgs: 25 mOhm @ 12A, 10V; Vgs(th) (Max) @ Id: 2.5V @ 250µA; Gate Charge (Qg) @ Vgs: 18nC @ 5V; Input Capacitance (Ciss) @ Vds: 1320pF @ 25V; Power - Max: 40W; Manufacturer Part Number: STD30N6LF6AG; RoHS: RoHS Compliant; Category: Discrete Semiconductor Products; Packaging: Tape & Reel (TR); Mounting Type: Surface Mount; Package / Case: TO-252-3, DPak (2 Leads + Tab), SC-63; Supplier Device Package: D-Pak; ComponentLink1URL: http://www.st.com/web/en/resource/technical/document/datasheet/CD00001894.pdf; ComponentLink1Description: http://www.st.com/web/en/resource/technical/document/datasheet/CD00001894.pdf; Supplier 1: Digi-Key; Supplier Part Number 1: 497-16302-1-ND
footprint DPAK
pins: 1 DRAIN, 2 SOURCE, 3 GATE

## Q_STD30NF03LT4
designator Q?  Supplier Part Number 2: 497-3157-2-ND  Supplier Part Number 3: 497-3157-1-ND
MOSFET N-CH 30V 30A DPAK; Manufacturer: STMicroelectronics; FET Type: MOSFET N-Channel, Metal Oxide; FET Feature: Logic Level Gate; Current - Continuous Drain (Id) @ 25°C: 30A (Tc); Rds On (Max) @ Id, Vgs: 25 mOhm @ 15A, 10V; Vgs(th) (Max) @ Id: 2.5V @ 250µA; Gate Charge (Qg) @ Vgs: 18nC @ 5V; Input Capacitance (Ciss) @ Vds: 830pF @ 25V; Power - Max: 50W; Supplier 1: Digi-Key; Manufacturer Part Number: STD30NF03LT4; RoHS: RoHS Compliant; Category: Discrete Semiconductor Products; Stock 1: 10000; Pricing 1: 2500=0.6566, 5000=0.62377, 12500=0.60032, 25000=0.58156 (USD); Packaging: Tape & Reel (TR); Drain to Source Voltage (Vdss): 30V; Mounting Type: Surface Mount; Package / Case: TO-252-3, DPak (2 Leads + Tab), SC-63; Supplier Device Package: D-Pak; ComponentLink1URL: http://www.st.com/web/en/resource/technical/document/datasheet/CD00001894.pdf; ComponentLink1Description: http://www.st.com/web/en/resource/technical/document/datasheet/CD00001894.pdf; Supplier 2: Digi-Key; Supplier 3: Digi-Key
footprint DPAK
pins: 1 DRAIN, 2 SOURCE, 3 GATE

## Q_STD44N4LF6
designator Q?, comment STD44N4LF6
MOSFET N-CH 40V 44A DPAK; Manufacturer: STMicroelectronics; FET Type: MOSFET N-Channel, Metal Oxide; FET Feature: Logic Level Gate; Drain to Source Voltage (Vdss): 30V; Current - Continuous Drain (Id) @ 25°C: 30A (Tc); Rds On (Max) @ Id, Vgs: 12.5 mOhm @ 20A, 10V; Vgs(th) (Max) @ Id: 2.5V @ 250µA; Gate Charge (Qg) @ Vgs: 22nC @ 10V; Input Capacitance (Ciss) @ Vds: 1190pF @ 25V; Power - Max: 50W; Manufacturer Part Number: STD44N4LF6; RoHS: RoHS Compliant; Category: Discrete Semiconductor Products; Mounting Type: Surface Mount; Package / Case: TO-252-3, DPak (2 Leads + Tab), SC-63; Supplier Device Package: D-Pak; ComponentLink1URL: http://www.st.com/web/en/resource/technical/document/datasheet/CD00001894.pdf; ComponentLink1Description: http://www.st.com/web/en/resource/technical/document/datasheet/CD00001894.pdf; Supplier 1: Digi-Key; Supplier Part Number 1: 497-11098-1-ND
footprint DPAK
pins: 1 DRAIN, 2 SOURCE, 3 GATE

## R_0603_110K_1%
designator R?  value 110K  (hidden comment: R_0603_110K_1%)
RES 110K OHM 1/16W 1% 0603 SMD; Power Rating: 0.0625W; SVP Creator: Spencer Berglund; Supplier 1: Digi-Key; Supplier Part Number 1: 311-110KHRCT-ND
simulation model Resistor (Resistor Model)
footprint 0603_RESISTOR (0603 RESISTOR)
pins: 1, 2

## R_0603_120_1%
designator R?  value 120  (hidden comment: R_0603_120_1%)
RES 120 OHM 1/16W 1% 0603 SMD; Power Rating: 0.0625W; SVP Creator: Spencer Berglund; Supplier 1: Digi-Key; Supplier Part Number 1: 311-120HRCT-ND
simulation model Resistor (Resistor Model)
footprint 0603_RESISTOR (0603 RESISTOR)
pins: 1, 2

## R_0603_143_1%
designator R?, comment value 143  (hidden comment: RES)
143 Ohm ±1% 0.25W, 1/4W Surface Mount Resistor Thick Film ±100ppm/°C 0603 (1608 Metric; SVP Creator: Zach Kabitz; Supplier 1: Digi-Key; Supplier Part Number 1: 541-143STR-ND
footprint 0603_RESISTOR (0603 RESISTOR)
pins: 1, 2

## R_0805_1K_1%
designator R?
RES 1K 1/10W 1% 0805
footprint 0805_Resistor (0805 Resistor)
pins: 1, 2

## R_0805_5m_1%
designator R?  value 5m  (hidden comment: R_0805_5m_1%)
RES 5m OHM 1/8W 1% 0805 SMD; Power Rating: 0.125W; SVP Creator: Joshua Liew; Supplier 1: Newark; Supplier Part Number 1: 16X9675
footprint 0805_Resistor (0805 Resistor)
simulation model Resistor (Resistor Model)
pins: 1, 2

## R_0805_8.66K_1%
designator R?  value 8.66K  (hidden comment: R_0805_8.66K_1%)
RES 8.66K OHM 1/8W 1% 0805 SMD; Power Rating: 0.125W; SVP Creator: Joshua Liew; Supplier 1: Digi-Key; Supplier Part Number 1: 311-8.66KHRCT-ND
footprint 0805_Resistor (0805 Resistor)
simulation model Resistor (Resistor Model)
pins: 1, 2

## R_0805_26.1K_1/8W_1%
designator R?, comment value 26.1K  (hidden comment: RES)
RES SMD 26.1K OHM 1% 1/8W 0805; SVP Creator: Zach Kabitz; Supplier 1: Digi-Key; Supplier Part Number 1: 311-26.1KCRTR-ND
footprint 0805_Resistor (0805 Resistor)
pins: 1, 2

## R_0805_33K_1%
designator R?, comment value 33K  (hidden comment: R_0805_33K%)
RES SMD 33K OHM 5% 1/16W 0402; Power Rating: 0.125W; SVP Creator: Joshua Liew; Supplier 1: Newark; Supplier Part Number 1: 68R0001
footprint 0805_Resistor (0805 Resistor)
simulation model Resistor (Resistor Model)
pins: 1, 2

## R_0805_37.4K_1%
designator R?, comment value 37.4K  (hidden comment: RES)
37.4k Ohm ±1% 0.125W, 1/8W Surface Mount Resistor Thick Film ±100ppm/°C 0805; SVP Creator: Zach Kabitz; Supplier 1: Digi-Key; Supplier Part Number 1: P37.4KCTR-ND
pins: 1, 2

## R_0805_60.4K_1%
designator R?, comment value 60.4K  (hidden comment: RES)
60.4k Ohm ±1% 0.125W, 1/8W Surface Mount Resistor Thick Film ±100ppm/°C 0805; SVP Creator: Zach Kabitz; Supplier 1: Digi-Key; Supplier Part Number 1: P60.4KCTR-ND
footprint 0805_Resistor (0805 Resistor)
pins: 1, 2

## R_0805_124_1%
designator R?
RES 124 OHM 1/10W 1% 0805
footprint 0603_RESISTOR (0603 RESISTOR)
footprint 0805_Resistor (0805 Resistor)
pins: 1, 2

## R_0805_196K_1%
designator R?, comment value 196K  (hidden comment: RES)
196k Ohm ±1% 0.125W, 1/8W Surface Mount Resistor Thick Film ±100ppm/°C 0805 (2012 Metric); SVP Creator: Zach Kabitz; Supplier 1: Digi-Key; Supplier Part Number 1: 541-196KCCT-ND
pins: 1, 2

## R_0805_820K_1%
designator R?, comment value 820K  (hidden comment: R_0805_820K%)
RES SMD 820K OHM 5% 1/10W 0603; Power Rating: 0.125W; SVP Creator: Joshua Liew; Supplier 1: Digi-Key; Supplier Part Number 1: 311-820KGRCT-ND
footprint 0805_Resistor (0805 Resistor)
simulation model Resistor (Resistor Model)
pins: 1, 2

## R_3319P-1-104
designator R?, comment value 100K  (hidden comment: 3319P-1-104)
100k Ohm 0.2W, 1/5W PC Pins Through Hole Trimmer Potentiometer Carbon 1 Turn Top Adjustment; Supplier 1: Digi-Key; Supplier Part Number 1: 3319P-104-ND
footprint 3319P (0.2W, 1/5W PC Pins Through Hole Trimmer Potentiometer Carbon 1 Turn Top Adjustment)
pins: 1, 2, 3

## R_SMD_POT
designator R?
footprint SMD_Potentiometer
pins: 1, 2, 3

## R_TNPV12062M00BEEN
designator R?, comment value 2M  (hidden comment: TNPV12062M00BEEN)
RES SMD 2M OHM 0.1% 1/4W 1206; Supplier 1: Digi-Key; Supplier Part Number 1: 541-2324-1-ND
footprint 1206_RESISTOR (1206 Resistor)
pins: 1, 2

## SW_DIP_219-2MST
designator SW?, comment 219-2MST  (value not drawn)
SWITCH TAPE SEAL 2 POS SMD 50V; Manufacturer: CTS Electrocomponents; SVP Creator: Spencer Berglund; Package: SMD; Known Distributors: Digikey; Manufacturer PN: 219-2MST; Supplier 1: Digi-Key; Supplier Part Number 1: CT2192MST-ND
footprint SW_219-2 (SWITCH TAPE SEAL 2 POS SMD 50V)
pins: 1, 2, 3, 4

## SW_ST2-DC24V-F
designator SW?, comment ST2-DC24V-F
General Purpose Relay DPST (2 Form A) 24VDC Coil Through Hole; Supplier 1: Digi-Key; Supplier Part Number 1: 255-2941-ND
footprint Relay_Panasonic_ST2 (General Purpose Relay Through Hole)
pins: 1 -, 4 +, 5, 6, 7, 8

## TP_S1751-46
designator TP?, comment S1751-46
PC TEST POINT TIN SMD 1K; Supplier 1: Digi-Key; Supplier Part Number 1: 952-3024-ND
footprint S1751 (PC TEST POINT TIN SMD 1K)
pins: 1 TP

## U_FTX231X
designator U?, comment FT231XS-R
IC USB SERIAL FULL UART 20SSOP; Supplier 1: Digi-Key; Supplier Part Number 1: 768-1129-1-ND
footprint SSOP20-25mil (Non-Standard SSOP20 (Not Quite 0.65mm pitch))
pins: 1 DTR#, 2 RTS#, 3 VCCIO, 4 RXD, 5 RI#, 6 GND, 7 DSR#, 8 DCD#, 9 CTS#, 10 CBUS2, 11 USBDP, 12 USBDM, 13 3V3OUT, 14 RESET#, 15 VCC, 16 GND, 17 CBUS1, 18 CBUS0, 19 CBUS3, 20 TXD

## U_LMV358IPT
designator U?, comment LMV358IPT  (value not drawn)
Supplier 1: Digi-Key; Supplier Part Number 1: 497-4946-2-ND
footprint TSSOP8
part A pins: 1 VOUT1, 2 -, 3 +, 4 V-, 8 V+
part B pins: 5 +, 6 -, 7 VOUT2

## U_LMZ14203HTZX
designator U?, comment LMZ14203HTZX
Non-Isolated PoL Module DC DC Converter 1 Output 5 ~ 30 V 3A 6V - 42V Input; Voltage - Output 1: 5 ~ 30V; Efficiency: 94%; Current - Output (Max): 3A; Voltage - Input (Max): 42V; Voltage - Input (Min): 6V; Operating Temperature: -55°C ~ 125°C; Supplier 1: Digi-Key; Supplier Part Number 1: 296-43602-1-ND
footprint TO-PMOD-7 (7-pin TO-PMOD SMD Package)
pins: 1 VIN, 2 RON, 3 EN, 4 GND, 5 SS, 6 FB, 7 VOUT

## U_MAX4581
designator U?
Supplier 1: Digi-Key; Supplier Part Number 1: MAX4581EUE+-ND
footprint TSSOP16
pins: 1 X4, 2 X6, 3 X, 4 X7, 5 X5, 6 EN, 7 VEE, 8 GND, 9 C, 10 B, 11 A, 12 X3, 13 X0, 14 X1, 15 X2, 16 VCC

## U_R-78C12-1.0
designator U?, comment R-78C12-1.0
IC REG 1.0A 12V; Manufacturer: Recom Power; SVP Creator: John Sandell; Efficiency: 96%; Voltage - Input (Min): 15V; Voltage - Input (Max): 42V; Current - Output (Max): 1A; Manufacturer PN: R-78C12-1.0; Voltage - Output 1: 12V; Size / Dimension: 0.45" L x 0.30" W x 0.40" H (11.5mm x 7.5mm x 10.2mm); Supplier 1: Digi-Key; Supplier Part Number 1: 945-1392-5-ND
footprint SIP3
pins: 1 VCC, 2 GND, 3 +12

## U_R-7812-0.5
designator U?, comment R-7812-0.5
Linear Regulator Replacement DC DC Converter 1 Output 12V 500mA 15V - 32V Input; Manufacturer: Recom Power; SVP Creator: Spencer Berglund; Efficiency: 97%; Manufacturer PN: R-7812-0.5; Voltage - Input (Min): 15V; Voltage - Input (Max): 32V; Voltage - Output 1: 12V; Current - Output (Max): 500mA; Size / Dimension: 0.45" L x 0.30" W x 0.40" H (11.5mm x 7.5mm x 10.2mm); Supplier 1: Digi-Key; Supplier Part Number 1: 945-1032-ND
footprint SIP3
pins: 1 VCC, 2 GND, 3 +12

## U_RSO-2405DZ
designator U?, comment RSO-2405DZ
CONV DC/DC 1W 9-36VIN +/-05VOUT; Supplier 1: Digi-Key; Supplier Part Number 1: 945-1574-5-ND
footprint SIP8
pins: 1 -Vin, 2 +Vin, 3 CTRL, 6 +Vout, 7 Com, 8 -Vout

## U_TEPT4400
designator U?, comment TEPT4400
Phototransistor 570nm Top View Radial; Supplier 1: Digi-Key; Supplier Part Number 1: 751-1057-ND
footprint TEPT4400
pins: 1 Anode, 2 Cathode

## X_9HT10-32.768KDZB-T
designator X?, comment 9HT10-32.768KDZB-T
32.768 kHz crystal; Load Capacitance: 6pF; ESR: 70 kOhm; Frequency Tolerance: +/-20ppm; Supplier 1: Digi-Key; Supplier Part Number 1: 887-2606-1-ND; Value: 32.768KHz; Operating Temperature: -40°C ~ 85°C
footprint 2-SMD_3.2x1.5_Crystal (2-SMD, No Lead (DFN, LCC), n 0.126" L x 0.061" W (3.20mm x 1.50mm))
pins: 1, 2

## X_32.768kHz_CRYSTAL
designator X?  Supplier Part Number 1: XC1911CT-ND
32.768 kHz crystal; Supplier 1: Digi-Key
footprint X_2.1mm_RADIAL_CRYSTAL (2.1mm radial crystal)
pins: 1, 2